# Altium footprint library CN HDR 60POS.PcbLib: 1 footprints
Each footprint in its own frame and in the unit in brackets; x right, y up, seen from the top. Pads: shape width x height; smd on the part's side, far side on the other; paste and mask are expansions set on the pad; w line width, h text height; cw(c..) or ccw(c..) is an arc to the next point about the centre after c.
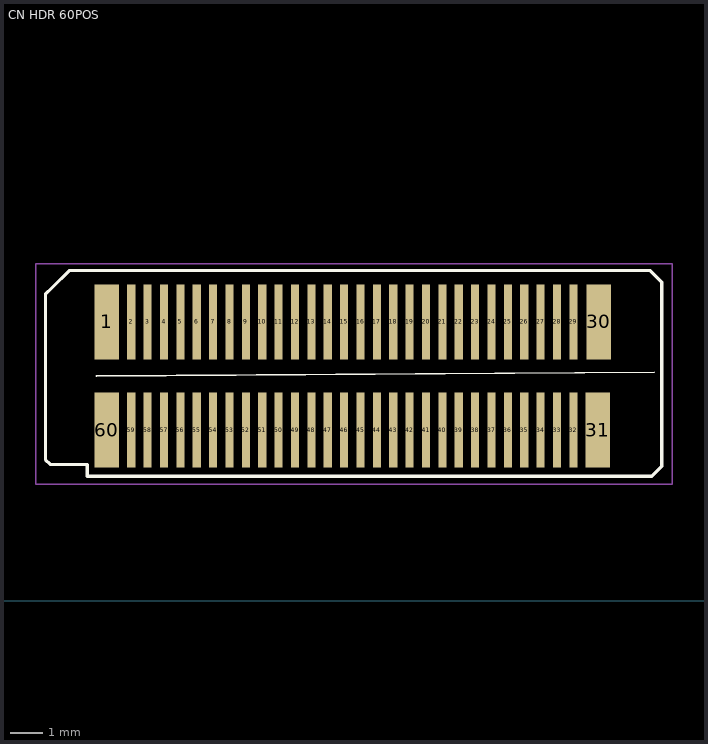
[diagram p0: the footprint, top view; thin cyan lines are the x and y axes]

## CN HDR 60POS [mm] "60 Position Connector Header, Outer Shroud Contacts Surface Mount Gold"
pads (60):
  rect 0.75x2.3 smd: 1(-548,8.51) 30(-532.98,8.51) 31(-533,5.21) 60(-548,5.21)
  rect 0.25x2.3 smd: 2(-547.25,8.51) 3(-546.75,8.51) 4(-546.25,8.51) 5(-545.75,8.51) 6(-545.25,8.51) 7(-544.75,8.51) 8(-544.25,8.51) 9(-543.75,8.51) 10(-543.25,8.51) 11(-542.75,8.51) 12(-542.25,8.51) 13(-541.75,8.51) 14(-541.25,8.51) 15(-540.75,8.51) 16(-540.25,8.51) 17(-539.75,8.51) 18(-539.25,8.51) 19(-538.75,8.51) 20(-538.25,8.51) 21(-537.75,8.51) 22(-537.25,8.51) 23(-536.75,8.51) 24(-536.25,8.51) 25(-535.75,8.51) 26(-535.25,8.51) 27(-534.75,8.51) 28(-534.25,8.51) 29(-533.75,8.51) 32(-533.75,5.21) 33(-534.25,5.21) 34(-534.75,5.21) 35(-535.25,5.21) 36(-535.75,5.21) 37(-536.25,5.21) 38(-536.75,5.21) 39(-537.25,5.21) 40(-537.75,5.21) 41(-538.25,5.21) 42(-538.75,5.21) 43(-539.25,5.21) 44(-539.75,5.21) 45(-540.25,5.21) 46(-540.75,5.21) 47(-541.25,5.21) 48(-541.75,5.21) 49(-542.25,5.21) 50(-542.75,5.21) 51(-543.25,5.21) 52(-543.75,5.21) 53(-544.25,5.21) 54(-544.75,5.21) 55(-545.25,5.21) 56(-545.75,5.21) 57(-546.25,5.21) 58(-546.75,5.21) 59(-547.25,5.21)
Top Overlay:
  lines w0.05: -548.31,6.86 -531.28,6.97
  lines w0.1: -549.87,4.31 -549.72,4.16 -548.59,4.16 -548.59,3.8 -532.25,3.8 -531.35,3.8 -531.05,4.1 -531.05,9.67 -531.05,9.73 -531.4,10.08 -532.12,10.08 -548.26,10.08 -549.15,10.08 -549.67,9.56 -549.87,9.36 -549.87,4.31
Mechanical 15:
  lines w0.051: -550.164,3.556 -550.164,9.271 -550.164,10.287 -530.733,10.287 -530.733,3.556 -550.164,3.556
3D body: height 0.25, standoff 0, extent -549.58,4.525 -531.44,9.415